# EAGLE library part CD4066B (library WarthogRobotics-IC-Special_Function)
CMOS QUAD BILATERAL SWITCH
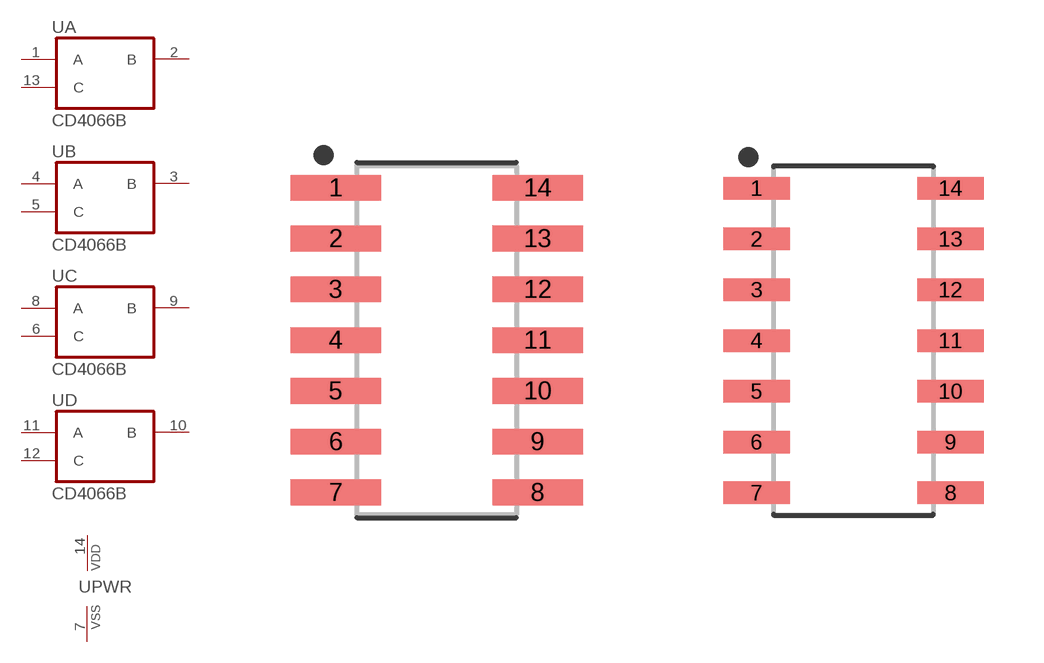
[diagram p0: symbol with the pads of SO14(M); footprints SO14(M), SO14(L)]

Designator prefix U; gates A=4066 B=4066 C=4066 D=4066 PWR=PWRN

## CD4066BSO14  [SO14(M)]
1  A:A  hiz
2  A:B  hiz
3  B:B  hiz
4  B:A  hiz
5  B:C  in
6  C:C  in
7  PWR:VSS  pwr
8  C:A  hiz
9  C:B  hiz
10  D:B  hiz
11  D:A  hiz
12  D:C  in
13  A:C  in
14  PWR:VDD  pwr

## CD4066BSO14(L)  [SO14(L)]
Pads as for SO14(M)

## CD4066BSO14(N)  [SO14(N)]
Pads as for SO14(M)

## Footprint SO14(M) (pad centres in mm)
14-SOIC, 1.27 mm pitch, 6.00 mm span, 8.63 X 3.90 X 1.73 mm body 14-pin SOIC package with 1.27 mm pitch, 6.00 mm span with body size 8.63 X 3.90 X 1.73 mm
smd 2.265 x 0.642: 1 -2.525,3.81; 2 -2.525,2.54; 3 -2.525,1.27; 4 -2.525,0; 5 -2.525,-1.27; 6 -2.525,-2.54; 7 -2.525,-3.81; 8 2.525,-3.81; 9 2.525,-2.54; 10 2.525,-1.27; 11 2.525,0; 12 2.525,1.27; 13 2.525,2.54; 14 2.525,3.81

## Footprint SO14(L) (pad centres in mm)
14-SOIC, 1.27 mm pitch, 6.00 mm span, 8.63 X 3.90 X 1.73 mm body 14-pin SOIC package with 1.27 mm pitch, 6.00 mm span with body size 8.63 X 3.90 X 1.73 mm
smd 1.665 x 0.562: 1 -2.425,3.81; 2 -2.425,2.54; 3 -2.425,1.27; 4 -2.425,0; 5 -2.425,-1.27; 6 -2.425,-2.54; 7 -2.425,-3.81; 8 2.425,-3.81; 9 2.425,-2.54; 10 2.425,-1.27; 11 2.425,0; 12 2.425,1.27; 13 2.425,2.54; 14 2.425,3.81

## Footprint SO14(N) (pad centres in mm)
14-SOIC, 1.27 mm pitch, 6.00 mm span, 8.63 X 3.90 X 1.73 mm body 14-pin SOIC package with 1.27 mm pitch, 6.00 mm span with body size 8.63 X 3.90 X 1.73 mm
smd 1.965 x 0.602: 1 -2.475,3.81; 2 -2.475,2.54; 3 -2.475,1.27; 4 -2.475,0; 5 -2.475,-1.27; 6 -2.475,-2.54; 7 -2.475,-3.81; 8 2.475,-3.81; 9 2.475,-2.54; 10 2.475,-1.27; 11 2.475,0; 12 2.475,1.27; 13 2.475,2.54; 14 2.475,3.81